# Altium schematic symbol library Display.SchLib: 12 symbols
Pins are listed as number, name and electrical type; pins without a type are passive.

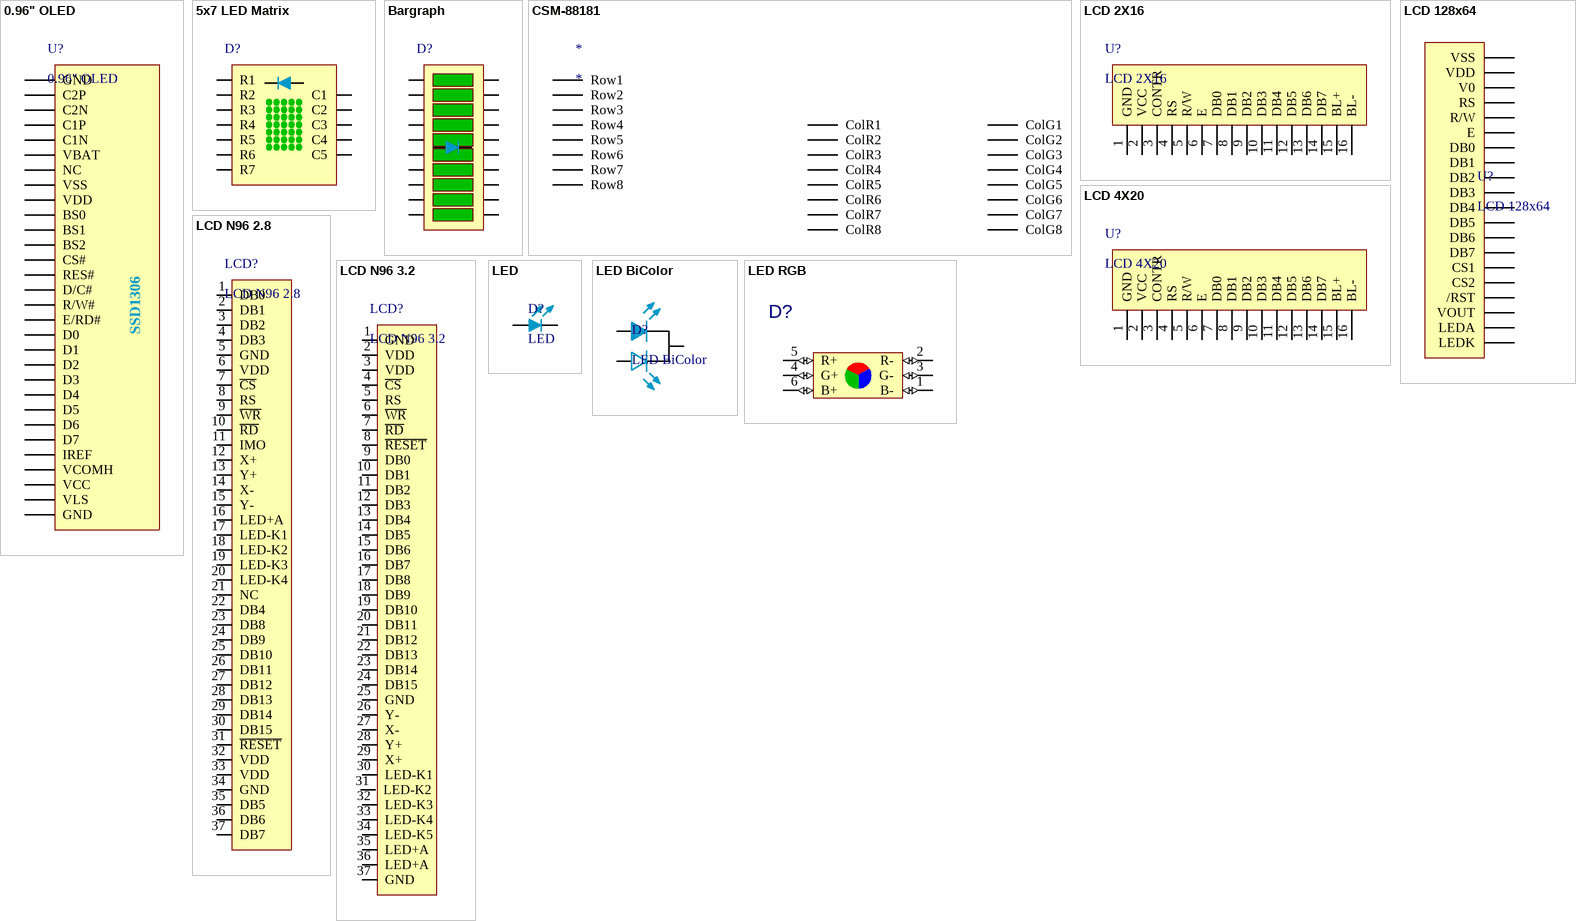
[diagram p0: symbols 0.96" OLED to LED RGB]

## 0.96" OLED
designator U?
footprint OLED-30 (30 Pin; 0.7 mm pitch OLED Footprint)
pins: 1 GND, 2 C2P, 3 C2N, 4 C1P, 5 C1N, 6 VBAT, 7 NC, 8 VSS, 9 VDD, 10 BS0, 11 BS1, 12 BS2, 13 CS#, 14 RES#, 15 D/C#, 16 R/W#, 17 E/RD#, 18 D0, 19 D1, 20 D2, 21 D3, 22 D4, 23 D5, 24 D6, 25 D7, 26 IREF, 27 VCOMH, 28 VCC, 29 VLS, 30 GND
text: SSD1306

## 5x7 LED Matrix
designator D?  (value not drawn)
5x7 Led Matrix Display
pins: 1 C1, 2 R3, 3 C2, 4 R5, 5 R6, 6 R7, 7 C4, 8 C5, 9 R4, 10 C3, 11 R2, 12 R1

## Bargraph
designator D?  (value not drawn)
10 Segment Bargraph
footprint 10-LED-BAR-GRAPH
pins: 1, 2, 3, 4, 5, 6, 7, 8, 9, 10, 11, 12, 13, 14, 15, 16, 17, 18, 19, 20

## CSM-88181
designator *
pins: 1 ColG5, 2 ColR5, 3 Row5, 4 ColG6, 5 ColR6, 6 Row6, 7 ColG7, 8 ColR7, 9 Row7, 10 ColG8, 11 ColR8, 12 Row8, 13 Row4, 14 ColR4, 15 ColG4, 16 Row3, 17 ColR3, 18 ColG3, 19 Row2, 20 ColR2, 21 ColG2, 22 Row1, 23 ColR1, 24 ColG1

## LCD 2X16
designator U?
2X16 LCD Module, LCD Alphanumeric Display
footprint LCD-2X16
pins: 1 GND, 2 VCC, 3 CONTR, 4 RS, 5 R/W, 6 E, 7 DB0, 8 DB1, 9 DB2, 10 DB3, 11 DB4, 12 DB5, 13 DB6, 14 DB7, 15 BL+, 16 BL-

## LCD 4X20
designator U?
4X20 LCD Module, LCD Alphanumeric Display
footprint LCD-4x20
pins: 1 GND, 2 VCC, 3 CONTR, 4 RS, 5 R/W, 6 E, 7 DB0, 8 DB1, 9 DB2, 10 DB3, 11 DB4, 12 DB5, 13 DB6, 14 DB7, 15 BL+, 16 BL-

## LCD 128x64
designator U?
128x64 Graphical LCD
footprint PG12641D
pins: 1 VSS, 2 VDD, 3 V0, 4 RS, 5 R/W, 6 E, 7 DB0, 8 DB1, 9 DB2, 10 DB3, 11 DB4, 12 DB5, 13 DB6, 14 DB7, 15 CS1, 16 CS2, 17 /RST, 18 VOUT, 19 LEDA, 20 LEDK

## LCD N96 2.8
designator LCD?
N96 LCD Display (2.8")
footprint LCD N96 2.8
pins: 1 DB0, 2 DB1, 3 DB2, 4 DB3, 5 GND, 6 VDD, 7 ~{CS}, 8 RS, 9 ~{WR}, 10 ~{RD}, 11 IMO, 12 X+, 13 Y+, 14 X-, 15 Y-, 16 LED+A, 17 LED-K1, 18 LED-K2, 19 LED-K3, 20 LED-K4, 21 NC, 22 DB4, 23 DB8, 24 DB9, 25 DB10, 26 DB11, 27 DB12, 28 DB13, 29 DB14, 30 DB15, 31 ~{RESET}, 32 VDD, 33 VDD, 34 GND, 35 DB5, 36 DB6, 37 DB7

## LCD N96 3.2
designator LCD?
N96 LCD Display (3.2")
footprint LCD N96 3.2
pins: 1 GND, 2 VDD, 3 VDD, 4 ~{CS}, 5 RS, 6 ~{WR}, 7 ~{RD}, 8 ~{RESET}, 9 DB0, 10 DB1, 11 DB2, 12 DB3, 13 DB4, 14 DB5, 15 DB6, 16 DB7, 17 DB8, 18 DB9, 19 DB10, 20 DB11, 21 DB12, 22 DB13, 23 DB14, 24 DB15, 25 GND, 26 Y-, 27 X-, 28 Y+, 29 X+, 30 LED-K1, 31 LED-K2, 32 LED-K3, 33 LED-K4, 34 LED-K5, 35 LED+A, 36 LED+A, 37 GND

## LED
designator D?
footprint 0603 LED - Blue (Blue 0603 SMD LED)
footprint 0603 LED - Green (Green 0603 SMD LED)
footprint 0603 LED - Red (Red 0603 SMD LED)
footprint 0805-LED
footprint 3525-LED
footprint LED-5mm-Blue
footprint LED-5mm-green
footprint LED-5mm-orange
footprint LED-5mm-red
footprint LED-5mm-yellow
pins: A, K

## LED BiColor
designator D?
Bicolor LED; Color: Red - Green
pins: AG, AR, K

## LED RGB
designator D?  (value not drawn)
footprint LED-SMD-5050
pins: 1 B- (io), 2 R- (io), 3 G- (io), 4 G+ (io), 5 R+ (io), 6 B+ (io)